# EAGLE library part 1734346-1 (library rfid)
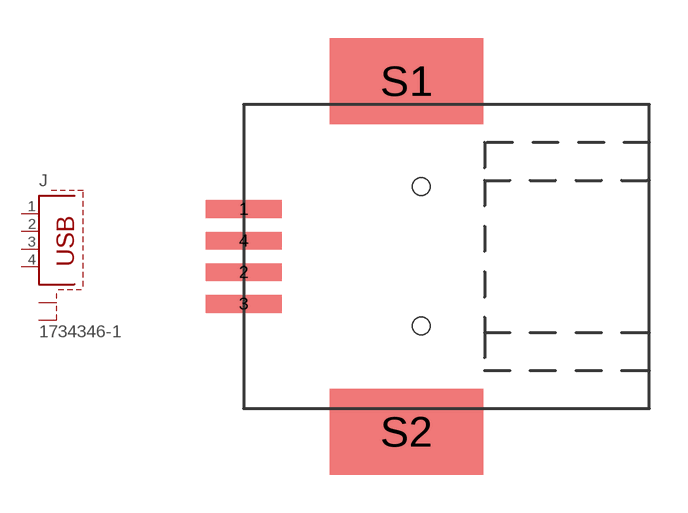
[diagram p5: symbol with the pads of 1734346-1; footprint 1734346-1]

Designator prefix J

## 1734346-1  [1734346-1]
1  1  pas
2  2  pas
3  3  pas
4  4  pas
S1  S1  pas
S2  S2  pas

## Footprint 1734346-1 (pad centres in mm)
USB-B connector SMD-type
smd 3 x 0.7: 1 -7.11,1.87; 2 -7.11,-0.62; 3 -7.11,-1.87; 4 -7.11,0.62
smd 6.04 x 3.4: S1 -0.69,6.92; S2 -0.69,-6.92
hole 0.7 at -0.11,2.75
hole 0.7 at -0.11,-2.75